# Altium schematic symbol library BMS_Slave - 複製.SchLib: 11 symbols
Pins are listed as number, name and electrical type; pins without a type are passive.

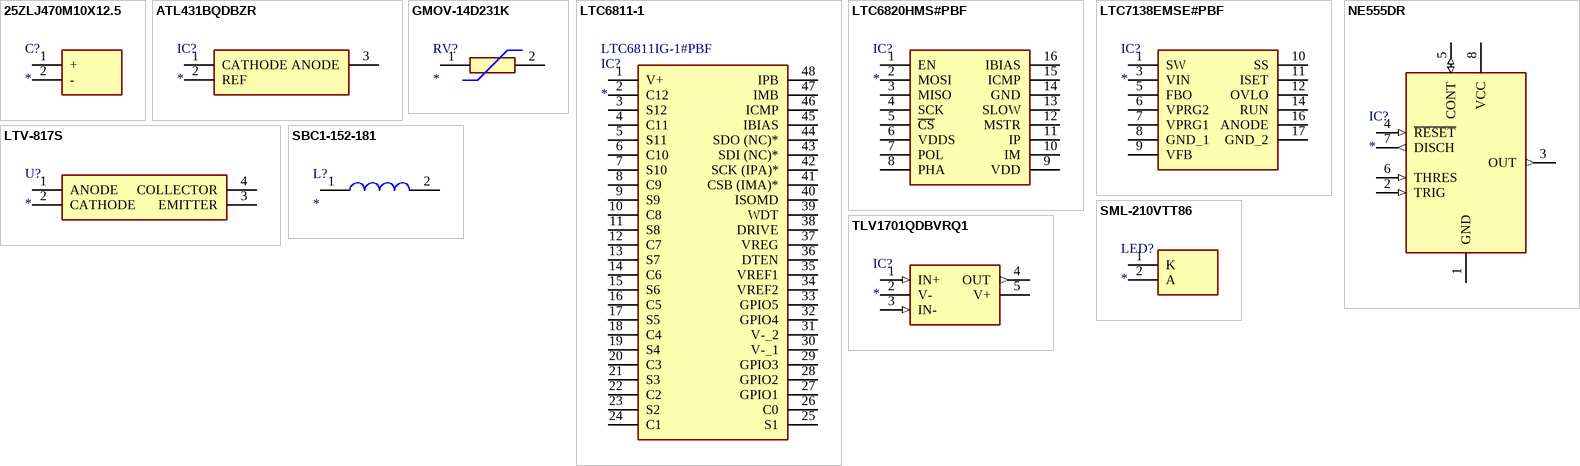
[diagram p0: symbols 25ZLJ470M10X12.5 to TLV1701QDBVRQ1]

## 25ZLJ470M10X12.5
designator C?
Capacitor Polarised; Manufacturer_Name: Rubycon; Manufacturer_Part_Number: 25ZLJ470M10X12.5; Datasheet Link: http://www.rubycon.co.jp/en/catalog/e_pdfs/aluminum/e_zlj.pdf; Height: 13.5mm; Mouser Part Number: 232-25ZLJ470M10X12.5; Mouser Price/Stock: https://www.mouser.com/Search/Refine.aspx?Keyword=232-25ZLJ470M10X12.5; RS Part Number: 7258950P; RS Price/Stock: http://uk.rs-online.com/web/p/products/7258950P
footprint CAPPRD500W60D1050H1350
pins: 1 +, 2 -

## ATL431BQDBZR
designator IC?
Integrated Circuit; Manufacturer_Name: Texas Instruments; Manufacturer_Part_Number: ATL431BQDBZR; Datasheet Link: http://www.ti.com/lit/gpn/atl431; Height: 1.12mm; Mouser Part Number: 595-ATL431BQDBZR; Mouser Price/Stock: https://www.mouser.com/Search/Refine.aspx?Keyword=595-ATL431BQDBZR
footprint SOT95P237X112-3N
pins: 1 CATHODE, 2 REF, 3 ANODE

## GMOV-14D231K
designator RV?
Varistor; Manufacturer_Name: Bourns; Manufacturer_Part_Number: GMOV-14D231K; Allied_Number: 71688173; Datasheet Link: https://componentsearchengine.com/Datasheets/1/GMOV-14D231K.pdf; Height: 20mm; Mouser Part Number: 652-GMOV-14D231K; Mouser Price/Stock: https://www.mouser.com/Search/Refine.aspx?Keyword=652-GMOV-14D231K; RS Part Number: 1862128P; RS Price/Stock: http://uk.rs-online.com/web/p/products/1862128P; Allied Price/Stock: https://www.alliedelec.com/bourns-gmov-14d231k/71688173/
footprint GMOV14D231K
pins: 1, 2

## LTC6811-1
designator IC?  Supplier Part Number 1: LTC6811IG-1#PBF
Integrated Circuit; Manufacturer_Name: Linear Technology; Manufacturer_Part_Number: LTC6811-1; Datasheet Link: http://cds.linear.com/docs/en/datasheet/68111fb.pdf; Height: 2mm; Supplier 1: Mouser
footprint SOP50P780X200-48N
pins: 1 V+, 2 C12, 3 S12, 4 C11, 5 S11, 6 C10, 7 S10, 8 C9, 9 S9, 10 C8, 11 S8, 12 C7, 13 S7, 14 C6, 15 S6, 16 C5, 17 S5, 18 C4, 19 S4, 20 C3, 21 S3, 22 C2, 23 S2, 24 C1, 25 S1, 26 C0, 27 GPIO1, 28 GPIO2, 29 GPIO3, 30 V-_1, 31 V-_2, 32 GPIO4, 33 GPIO5, 34 VREF2, 35 VREF1, 36 DTEN, 37 VREG, 38 DRIVE, 39 WDT, 40 ISOMD, 41 CSB (IMA)*, 42 SCK (IPA)*, 43 SDI (NC)*, 44 SDO (NC)*, 45 IBIAS, 46 ICMP, 47 IMB, 48 IPB

## LTC6820HMS#PBF
designator IC?
Integrated Circuit; Manufacturer_Name: Analog Devices; Manufacturer_Part_Number: LTC6820HMS#PBF; Description: Interface - Specialized isoSPI Iso Communications Int; Datasheet Link: https://www.analog.com/media/en/technical-documentation/data-sheets/LTC6820.pdf; Height: 1.1mm; Mouser Part Number: 584-LTC6820HMS#PBF; Mouser Price/Stock: https://www.mouser.co.uk/ProductDetail/Analog-Devices/LTC6820HMSPBF/?qs=hVkxg5c3xu%252BAhS55eUb%252BEQ%3D%3D; Arrow Part Number: LTC6820HMS#PBF; Arrow Price/Stock: https://www.arrow.com/en/products/ltc6820hmspbf/analog-devices
footprint SOP50P490X110-16N
pins: 1 EN, 2 MOSI, 3 MISO, 4 SCK, 5 ~{CS}, 6 VDDS, 7 POL, 8 PHA, 9 VDD, 10 IM, 11 IP, 12 MSTR, 13 SLOW, 14 GND, 15 ICMP, 16 IBIAS

## LTC7138EMSE#PBF
designator IC?
Integrated Circuit; Manufacturer_Name: Analog Devices; Manufacturer_Part_Number: LTC7138EMSE#PBF; Datasheet Link: https://www.arrow.com/en/products/ltc7138emsepbf/analog-devices; Height: 1.1mm; Arrow Part Number: LTC7138EMSE#PBF; Arrow Price/Stock: https://www.arrow.com/en/products/ltc7138emsepbf/analog-devices
footprint LTC7138EMSEPBF
pins: 1 SW, 3 VIN, 5 FBO, 6 VPRG2, 7 VPRG1, 8 GND_1, 9 VFB, 10 SS, 11 ISET, 12 OVLO, 14 RUN, 16 ANODE, 17 GND_2

## LTV-817S
designator U?
Undefined or Miscellaneous; Manufacturer_Name: Lite-On; Manufacturer_Part_Number: LTV-817S; Datasheet Link: http://optoelectronics.liteon.com/upload/download/DS-70-96-0016/LTV-8X7%20series%20201610%20.pdf; Height: 4.6mm; Mouser Part Number: 859-LTV-817S; Mouser Price/Stock: https://www.mouser.com/Search/Refine.aspx?Keyword=859-LTV-817S; RS Part Number: 6912182P; RS Price/Stock: http://uk.rs-online.com/web/p/products/6912182P
footprint SOP254P1016X460-4N
pins: 1 ANODE, 2 CATHODE, 3 EMITTER, 4 COLLECTOR

## NE555DR
designator IC?
Integrated Circuit; Manufacturer_Name: Texas Instruments; Manufacturer_Part_Number: NE555DR; Datasheet Link: http://www.ti.com/lit/ds/symlink/ne555.pdf; Height: 1.75mm; Mouser Part Number: 595-NE555DR; Mouser Price/Stock: https://www.mouser.com/Search/Refine.aspx?Keyword=595-NE555DR; RS Part Number: 1218414; RS Price/Stock: http://uk.rs-online.com/web/p/products/1218414
footprint SOIC127P600X175-8N
pins: 1 GND (power), 2 TRIG (in), 3 OUT (out), 4 ~{RESET} (in), 5 CONT (io), 6 THRES (in), 7 DISCH (out), 8 VCC (power)

## SBC1-152-181
designator L?
Inductor; Manufacturer_Name: Kemet; Manufacturer_Part_Number: SBC1-152-181; Datasheet Link: https://api.kemet.com/component-edge/download/datasheet/SBC1-152-181.pdf; Height: 10.5mm; Mouser Part Number: 80-SBC1-152-181; Mouser Price/Stock: https://www.mouser.com/Search/Refine.aspx?Keyword=80-SBC1-152-181
footprint SBC1152181
pins: 1, 2

## SML-210VTT86
designator LED?
LED; Manufacturer_Name: ROHM Semiconductor; Manufacturer_Part_Number: SML-210VTT86; Allied_Number: 70522026; Datasheet Link: https://componentsearchengine.com/Datasheets/1/SML-210VTT86.pdf; Height: 0.8mm; Mouser Part Number: 755-SML-210VTT86; Mouser Price/Stock: https://www.mouser.com/Search/Refine.aspx?Keyword=755-SML-210VTT86; RS Part Number: 7007893P; RS Price/Stock: http://uk.rs-online.com/web/p/products/7007893P; Allied Price/Stock: https://www.alliedelec.com/rohm-semiconductor-sml-210vtt86/70522026/
footprint LEDC2012X80N
pins: 1 K, 2 A

## TLV1701QDBVRQ1
designator IC?
Integrated Circuit; Manufacturer_Name: Texas Instruments; Manufacturer_Part_Number: TLV1701QDBVRQ1; Datasheet Link: http://www.ti.com/lit/gpn/tlv1701-q1; Height: 1.45mm; Mouser Part Number: 595-TLV1701QDBVRQ1; Mouser Price/Stock: https://www.mouser.com/Search/Refine.aspx?Keyword=595-TLV1701QDBVRQ1
footprint SOT95P280X145-5N
pins: 1 IN+ (in), 2 V- (power), 3 IN- (in), 4 OUT (out), 5 V+ (power)